# Altium footprint library x_con.PcbLib: 1 footprints
Each footprint in its own frame and in the unit in brackets; x right, y up, seen from the top. Pads: shape width x height; smd on the part's side, far side on the other; paste and mask are expansions set on the pad; w line width, h text height; cw(c..) or ccw(c..) is an arc to the next point about the centre after c.
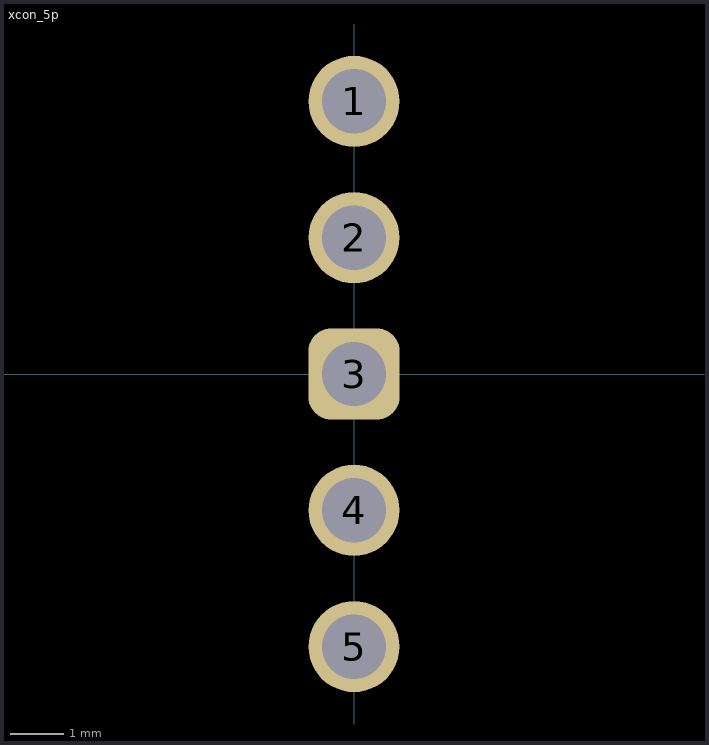
[diagram p0: the footprint, top view; thin cyan lines are the x and y axes]

## xcon_5p [mm]
pads (5):
  round 1.7 hole 1.2: 1(0,5.08) 2(0,2.54) 4(0,-2.54) 5(0,-5.08)
  rrect50% 1.7x1.7 hole 1.2: 3(0,0)